# Altium footprint library PCB - LEADLESS - QFN - TI VQFN-48 RGZ0048B.PcbLib: 1 footprints
Each footprint in its own frame and in the unit in brackets; x right, y up, seen from the top. Pads: shape width x height; smd on the part's side, far side on the other; paste and mask are expansions set on the pad; w line width, h text height; cw(c..) or ccw(c..) is an arc to the next point about the centre after c.
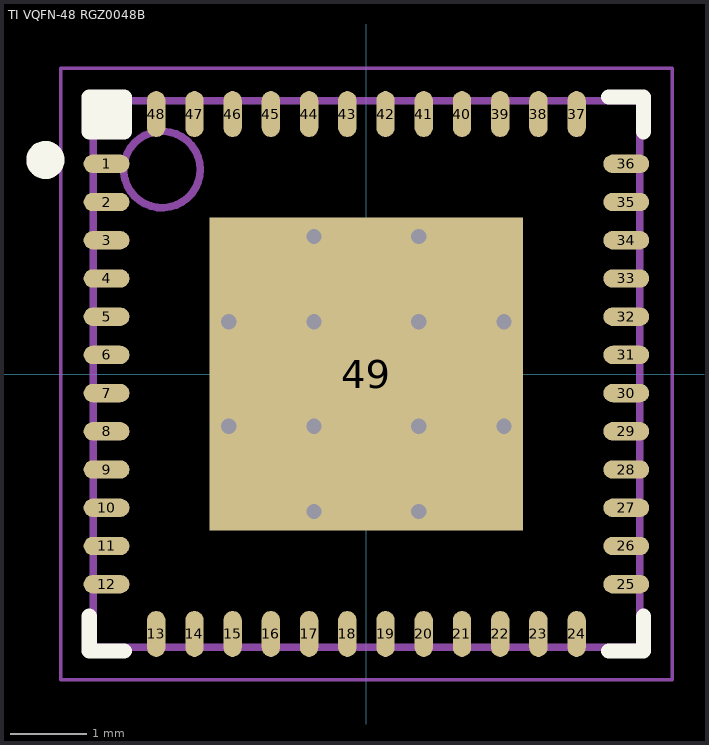
[diagram p0: the footprint, top view; thin cyan lines are the x and y axes]

## TI VQFN-48 RGZ0048B [mm] "VQFN, 48-Leads, Body 7.00x7.00mm, Pitch 0.50mm, Thermal Pad 4.10x4.10mm"
height 1
pads (49):
  oval 0.6x0.24 smd: 1(-3.4,2.75) 2(-3.4,2.25) 3(-3.4,1.75) 4(-3.4,1.25) 5(-3.4,0.75) 6(-3.4,0.25) 7(-3.4,-0.25) 8(-3.4,-0.75) 9(-3.4,-1.25) 10(-3.4,-1.75) 11(-3.4,-2.25) 12(-3.4,-2.75) 25(3.4,-2.75) 26(3.4,-2.25) 27(3.4,-1.75) 28(3.4,-1.25) 29(3.4,-0.75) 30(3.4,-0.25) 31(3.4,0.25) 32(3.4,0.75) 33(3.4,1.25) 34(3.4,1.75) 35(3.4,2.25) 36(3.4,2.75)
  oval 0.24x0.6 smd: 13(-2.75,-3.4) 14(-2.25,-3.4) 15(-1.75,-3.4) 16(-1.25,-3.4) 17(-0.75,-3.4) 18(-0.25,-3.4) 19(0.25,-3.4) 20(0.75,-3.4) 21(1.25,-3.4) 22(1.75,-3.4) 23(2.25,-3.4) 24(2.75,-3.4) 37(2.75,3.4) 38(2.25,3.4) 39(1.75,3.4) 40(1.25,3.4) 41(0.75,3.4) 42(0.25,3.4) 43(-0.25,3.4) 44(-0.75,3.4) 45(-1.25,3.4) 46(-1.75,3.4) 47(-2.25,3.4) 48(-2.75,3.4)
  rect 4.1x4.1 smd: 49(0,0)
via -0.685,1.8 diameter 0.5 hole 0.2
via 0.685,1.8 diameter 0.5 hole 0.2
via -1.8,0.685 diameter 0.5 hole 0.2
via -0.685,0.685 diameter 0.5 hole 0.2
via 0.685,0.685 diameter 0.5 hole 0.2
via 1.8,0.685 diameter 0.5 hole 0.2
via -1.8,-0.685 diameter 0.5 hole 0.2
via -0.685,-0.685 diameter 0.5 hole 0.2
via 0.685,-0.685 diameter 0.5 hole 0.2
via 1.8,-0.685 diameter 0.5 hole 0.2
via -0.685,-1.8 diameter 0.5 hole 0.2
via 0.685,-1.8 diameter 0.5 hole 0.2
Top Overlay:
  circle w0.25: c-4.2,2.8 r0.125
  rectangle: -3.625,3.17 -3.17,3.625
  lines w0.2: -3.625,-3.17 -3.625,-3.625 -3.17,-3.625 ; 3.17,-3.625 3.625,-3.625 3.625,-3.17 ; 3.17,3.625 3.625,3.625 3.625,3.17 ; -3.625,3.17 -3.17,3.17 -3.17,3.625 -3.625,3.625 -3.625,3.17
Mechanical 13:
  circle w0.1: c-2.675,2.675 r0.5
  lines w0.1: -3.575,-3.575 -3.575,3.575 3.575,3.575 3.575,-3.575 -3.575,-3.575
Mechanical 15:
  lines w0.05: -4,-4 -4,4 4,4 4,-4 -4,-4
  lines w0.1: -0.5,0 0.5,0 ; 0,-0.5 0,0.5
3D body "TI VQFN-48 RGZ0048B.step": height 1, standoff 0, extent -3.625,-3.625 3.625,3.625